# Altium schematic symbol library ESP8266.SchLib: 1 symbol
Pins are listed as number, name and electrical type; pins without a type are passive.

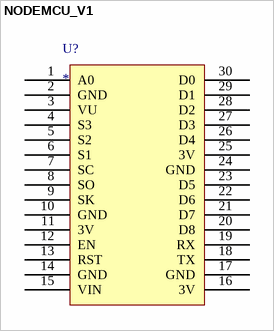
[diagram p0: symbol NODEMCU_V1]

## NODEMCU_V1
designator U?
pins: 1 A0, 2 GND, 3 VU, 4 S3, 5 S2, 6 S1, 7 SC, 8 SO, 9 SK, 10 GND, 11 3V, 12 EN, 13 RST, 14 GND, 15 VIN, 16 3V, 17 GND, 18 TX, 19 RX, 20 D8, 21 D7, 22 D6, 23 D5, 24 GND, 25 3V, 26 D4, 27 D3, 28 D2, 29 D1, 30 D0